# EAGLE library part TPS62140 (library HAB)
TPS62140/1/2/3 Adjustable or fixed output switch-mode 2A D-CAP2 regulator
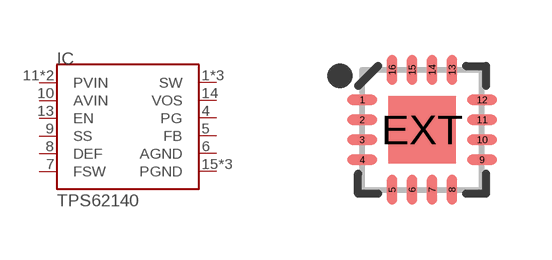
[diagram p21: symbol with the pads of QFN16-3X3MM; footprint QFN16-3X3MM]

Designator prefix IC

## TPS62140  [QFN16-3X3MM]
1  SW  pwr
2  SW  pwr
3  SW  pwr
4  PG  oc
5  FB  in
6  AGND  pwr
7  FSW  in
8  DEF  in
9  SS  pas
10  AVIN  pwr
11  PVIN  pwr
12  PVIN  pwr
13  EN  in
14  VOS  in
15  PGND  pwr
16  PGND  pwr
EXT  PGND  pwr

## Footprint QFN16-3X3MM (pad centres in mm)
smd 0.75 x 0.25: 1 -1.5,0.75; 2 -1.5,0.25; 3 -1.5,-0.25; 4 -1.5,-0.75; 9 1.5,-0.75; 10 1.5,-0.25; 11 1.5,0.25; 12 1.5,0.75
smd 0.25 x 0.75: 5 -0.75,-1.5; 6 -0.25,-1.5; 7 0.25,-1.5; 8 0.75,-1.5; 13 0.75,1.5; 14 0.25,1.5; 15 -0.25,1.5; 16 -0.75,1.5
smd 1.68 x 1.68: EXT 0,0